# EAGLE library part TPS54231DR (library ExitControl_v2_master_library)
IC REG BUCK ADJ 2A 8SOIC
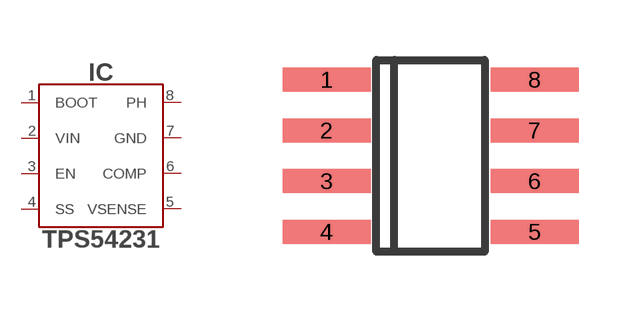
[diagram p5: symbol with the pads of SOIC8; footprint SOIC8]

Designator prefix IC

## TPS54231DR-SOIC8 (COMPEL: http://www.compel.ru/infosheet/TI/TPS54231DR/; DIGIKEY#: 296-23844-1-ND; MANF: Texas Instruments; MANF#: TPS54231DR)  [SOIC8]
1  BOOT
2  VIN
3  EN
4  SS
5  VSENSE
6  COMP
7  GND
8  PH

## Footprint SOIC8 (pad centres in mm)
Small Outline IC
smd 2.2 x 0.6: 1 -2.6,1.905; 2 -2.6,0.635; 3 -2.6,-0.635; 4 -2.6,-1.905; 5 2.6,-1.905; 6 2.6,-0.635; 7 2.6,0.635; 8 2.6,1.905